# EAGLE library part 74LVC1G19GV,125 (library SamacSys_Parts)
74LVC1G19 - 1-of-2 decoder/demultiplexer@en-us Source: Datasheet <https://assets.nexperia.com/documents/data-sheet/74LVC1G19.pdf>
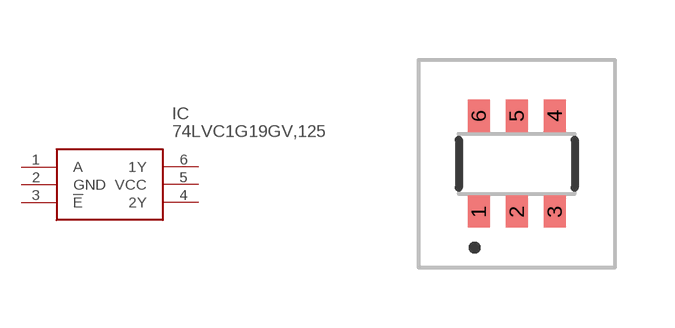
[diagram p124: symbol with the pads of 74LVC1G19GV125; footprint 74LVC1G19GV125]

Designator prefix IC

## 74LVC1G19GV,125 (DESCRIPTION: 74LVC1G19 - 1-of-2 decoder/demultiplexer@en-us; HEIGHT: 1.1mm; MANUFACTURER_NAME: Nexperia; MANUFACTURER_PART_NUMBER: 74LVC1G19GV,125; MOUSER_PART_NUMBER: 771-LVC1G19GV125; MOUSER_PRICE-STOCK: https://www.mouser.co.uk/ProductDetail/Nexperia/74LVC1G19GV125?qs=me8TqzrmIYVTgQY08cSItA%3D%3D)  [74LVC1G19GV125]
1  A
2  GND
3  !E
4  2Y
5  VCC
6  1Y

## Footprint 74LVC1G19GV125 (pad centres in mm)
74LVC1G19GV,125-1
smd 0.55 x 0.8: 1 -0.95,-1.2; 2 0,-1.2; 3 0.95,-1.2; 4 0.95,1.2; 5 0,1.2; 6 -0.95,1.2